# EAGLE library part MP3V5050 (library Victor)
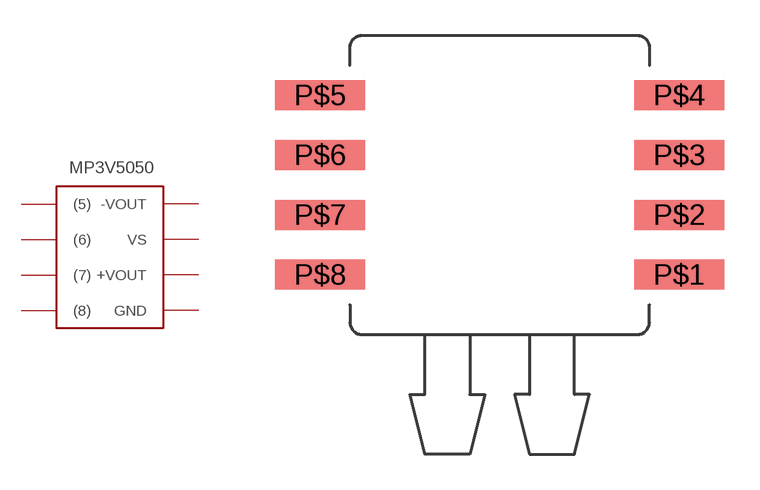
[diagram p2: symbol with the pads of 8-BSOP; footprint 8-BSOP]

Designator prefix -

## MP3V5050  [8-BSOP]
P$1  GND
P$2  +VOUT
P$3  VS
P$4  -VOUT
P$5  (5)
P$6  (6)
P$7  (7)
P$8  (8)

## Footprint 8-BSOP (pad centres in mm)
smd 3.81 x 1.27: P$1 7.62,-3.81; P$2 7.62,-1.27; P$3 7.62,1.27; P$4 7.62,3.81; P$5 -7.62,3.81; P$6 -7.62,1.27; P$7 -7.62,-1.27; P$8 -7.62,-3.81